# EAGLE library part STM32L151CBT6 (library perehodnik)
STM32
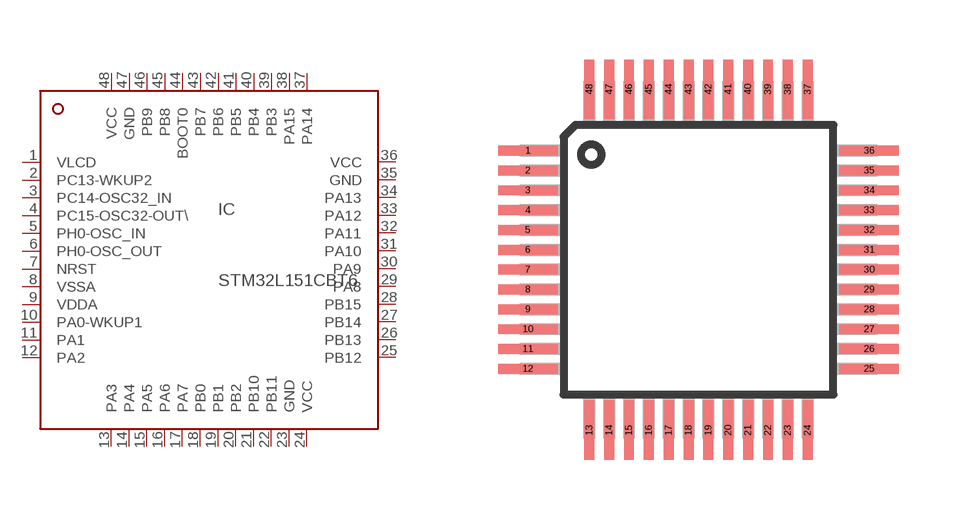
[diagram p0: symbol with the pads of TQFP48; footprint TQFP48]

Designator prefix IC

## STM32L151CBT6  [TQFP48]
1  VLCD  pwr
2  PC13-WKUP2
3  PC14-OSC32_IN
4  PC15-OSC32-OUT\  in
5  PH0-OSC_IN  in
6  PH0-OSC_OUT
7  NRST  in
8  VSSA  pwr
9  VDDA  pwr
10  PA0-WKUP1
11  PA1
12  PA2
13  PA3
14  PA4
15  PA5
16  PA6
17  PA7
18  PB0
19  PB1
20  PB2
21  PB10
22  PB11
23  VSS  pwr
24  VDD  pwr
25  PB12
26  PB13
27  PB14
28  PB15  in
29  PA8  in
30  PA9
31  PA10
32  PA11  out
33  PA12
34  PA13
35  VSS  pwr
36  VDD  pwr
37  PA14
38  PA15
39  PB3
40  PB4
41  PB5
42  PB6
43  PB7
44  BOOT0
45  PB8
46  PB9
47  VSS  pwr
48  VDD  pwr

## Footprint TQFP48 (pad centres in mm)
THIN QUAD FLAT PACK
smd 1.5 x 0.25: 1 -4.3,2.75; 2 -4.3,2.25; 3 -4.3,1.75; 4 -4.3,1.25; 5 -4.3,0.75; 6 -4.3,0.25; 7 -4.3,-0.25; 8 -4.3,-0.75; 9 -4.3,-1.25; 10 -4.3,-1.75; 11 -4.3,-2.25; 12 -4.3,-2.75; 25 4.3,-2.75; 26 4.3,-2.25; 27 4.3,-1.75; 28 4.3,-1.25; 29 4.3,-0.75; 30 4.3,-0.25; 31 4.3,0.25; 32 4.3,0.75; 33 4.3,1.25; 34 4.3,1.75; 35 4.3,2.25; 36 4.3,2.75
smd 0.25 x 1.5: 13 -2.75,-4.3; 14 -2.25,-4.3; 15 -1.75,-4.3; 16 -1.25,-4.3; 17 -0.75,-4.3; 18 -0.25,-4.3; 19 0.25,-4.3; 20 0.75,-4.3; 21 1.25,-4.3; 22 1.75,-4.3; 23 2.25,-4.3; 24 2.75,-4.3; 37 2.75,4.3; 38 2.25,4.3; 39 1.75,4.3; 40 1.25,4.3; 41 0.75,4.3; 42 0.25,4.3; 43 -0.25,4.3; 44 -0.75,4.3; 45 -1.25,4.3; 46 -1.75,4.3; 47 -2.25,4.3; 48 -2.75,4.3